# Altium footprint library PcbLib1.PcbLib: 64 footprints (part 2 of 4)
Each footprint in its own frame and in the unit in brackets; x right, y up, seen from the top. Pads: shape width x height; smd on the part's side, far side on the other; paste and mask are expansions set on the pad; w line width, h text height; cw(c..) or ccw(c..) is an arc to the next point about the centre after c.
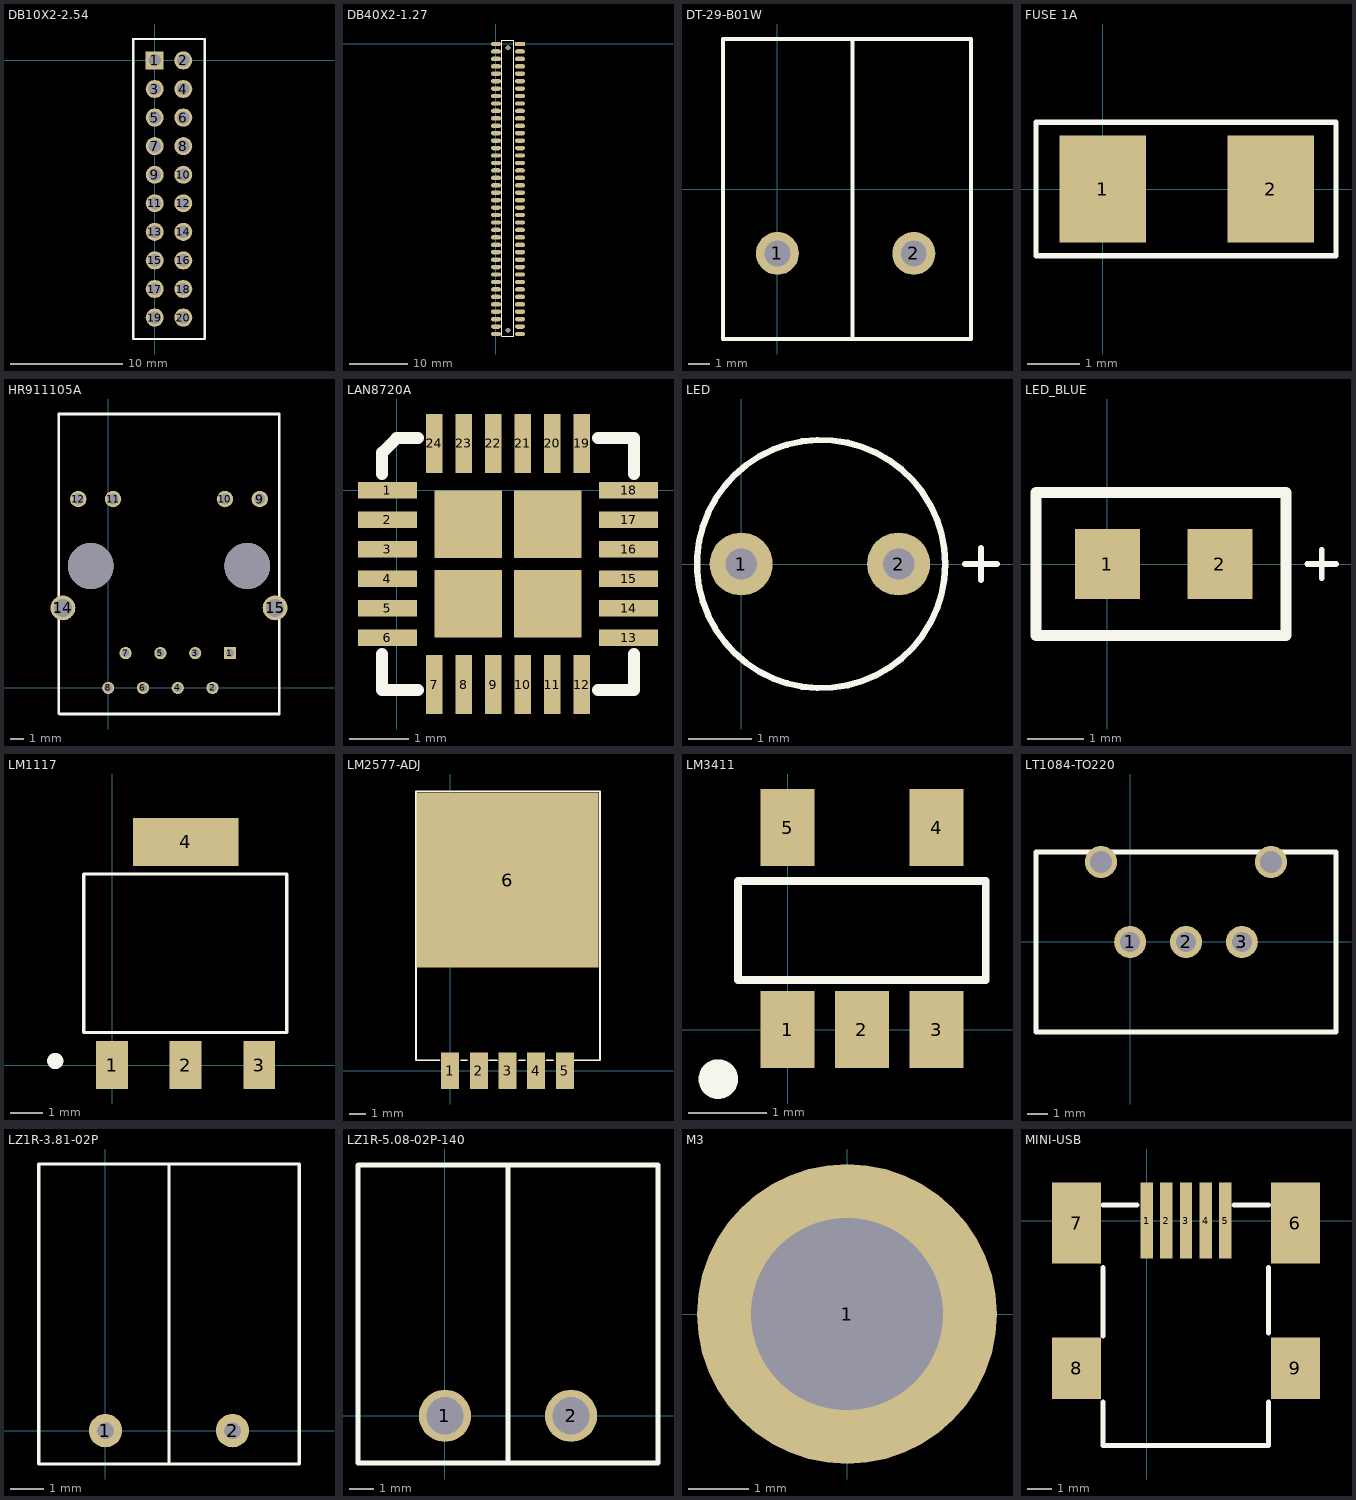
[diagram p1: the footprints below, top view; thin cyan lines are the x and y axes]

## DB10X2-2.54 [mm]
pads (20):
  rect 1.6x1.6 hole 1.1: 1(0,0)
  round 1.6 hole 1.1: 2(2.54,0) 3(0,-2.54) 4(2.54,-2.54) 5(0,-5.08) 6(2.54,-5.08) 7(0,-7.62) 8(2.54,-7.62) 9(0,-10.16) 10(2.54,-10.16) 11(0,-12.7) 12(2.54,-12.7) 13(0,-15.24) 14(2.54,-15.24) 15(0,-17.78) 16(2.54,-17.78) 17(0,-20.32) 18(2.54,-20.32) 19(0,-22.86) 20(2.54,-22.86)
Top Overlay:
  lines w0.2: -1.905,-24.765 4.445,-24.765 4.445,1.905 -1.905,1.905 -1.905,-24.765

## DB40X2-1.27 [mm]
pads (80):
  rect 1.7x0.74 smd: 1(4.1,0)
  oval 1.7x0.74 smd: 2(0,0) 3(4.1,-1.27) 4(0,-1.27) 5(4.1,-2.54) 6(0,-2.54) 7(4.1,-3.81) 8(0,-3.81) 9(4.1,-5.08) 10(0,-5.08) 11(4.1,-6.35) 12(0,-6.35) 13(4.1,-7.62) 14(0,-7.62) 15(4.1,-8.89) 16(0,-8.89) 17(4.1,-10.16) 18(0,-10.16) 19(4.1,-11.43) 20(0,-11.43) 21(4.1,-12.7) 22(0,-12.7) 23(4.1,-13.97) 24(0,-13.97) 25(4.1,-15.24) 26(0,-15.24) 27(4.1,-16.51) 28(0,-16.51) 29(4.1,-17.78) 30(0,-17.78) 31(4.1,-19.05) 32(0,-19.05) 33(4.1,-20.32) 34(0,-20.32) 35(4.1,-21.59) 36(0,-21.59) 37(4.1,-22.86) 38(0,-22.86) 39(4.1,-24.13) 40(0,-24.13) 41(4.1,-25.4) 42(0,-25.4) 43(4.1,-26.67) 44(0,-26.67) 45(4.1,-27.94) 46(0,-27.94) 47(4.1,-29.21) 48(0,-29.21) 49(4.1,-30.48) 50(0,-30.48) 51(4.1,-31.75) 52(0,-31.75) 53(4.1,-33.02) 54(0,-33.02) 55(4.1,-34.29) 56(0,-34.29) 57(4.1,-35.56) 58(0,-35.56) 59(4.1,-36.83) 60(0,-36.83) 61(4.1,-38.1) 62(0,-38.1) 63(4.1,-39.37) 64(0,-39.37) 65(4.1,-40.64) 66(0,-40.64) 67(4.1,-41.91) 68(0,-41.91) 69(4.1,-43.18) 70(0,-43.18) 71(4.1,-44.45) 72(0,-44.45) 73(4.1,-45.72) 74(0,-45.72) 75(4.1,-46.99) 76(0,-46.99) 77(4.1,-48.26) 78(0,-48.26) 79(4.1,-49.53) 80(0,-49.53)
via 2.05,-0.635 diameter 0.8 hole 0.8
via 2.05,-48.895 diameter 0.8 hole 0.8
Top Overlay:
  lines w0.1: 1.016,-49.911 1.016,0.635 3.048,0.635 3.048,-49.911 1.016,-49.911

## DT-29-B01W [mm]
pads (2):
  round 2 hole 1.2: 1(0,-3) 2(6.35,-3)
Top Overlay:
  lines w0.2: 3.492,-6.985 3.492,6.985 ; -2.54,-6.985 9.017,-6.985 9.017,6.985 -2.54,6.985 -2.54,0 -2.54,-6.985

## FUSE 1A [mm]
pads (2):
  rect 1.65x2.03 smd: 1(0,0) 2(3.2,0)
Top Overlay:
  lines w0.1: -1.27,-1.27 -1.27,1.27 4.445,1.27 4.445,-1.27 -1.27,-1.27

## HR911105A [mm]
pads (14):
  rect 0.89x0.89 hole 0.6: 1(8.89,2.54)
  round 0.89 hole 0.6: 2(7.62,0) 3(6.35,2.54) 4(5.08,0) 5(3.81,2.54) 6(2.54,0) 7(1.27,2.54) 8(0,0)
  round 1.2 hole 0.8: 9(11.065,13.79) 10(8.525,13.79) 11(0.355,13.79) 12(-2.185,13.79)
  round 1.8 hole 1.3: 14(-3.305,5.84) 15(12.185,5.84)
via 10.155,8.89 diameter 3.35 hole 3.35
via -1.275,8.89 diameter 3.35 hole 3.35
Top Overlay:
  lines w0.2: -3.61,-1.851 -3.556,-1.905 12.49,-1.905 12.49,15.24 12.49,20 -3.61,20 -3.61,15.24 -3.61,6.804 -3.61,-1.851

## LAN8720A [mm]
pads (28):
  rect 1x0.28 smd: 1(-0.155,0) 2(-0.155,-0.5) 3(-0.155,-1) 4(-0.155,-1.5) 5(-0.155,-2) 6(-0.155,-2.5) 13(3.945,-2.5) 14(3.945,-2) 15(3.945,-1.5) 16(3.945,-1) 17(3.945,-0.5) 18(3.945,0)
  rect 0.28x1 smd: 7(0.645,-3.3) 8(1.145,-3.3) 9(1.645,-3.3) 10(2.145,-3.3) 11(2.645,-3.3) 12(3.145,-3.3) 19(3.145,0.8) 20(2.645,0.8) 21(2.145,0.8) 22(1.645,0.8) 23(1.145,0.8) 24(0.645,0.8)
  rect 1.15x1.15 smd: ""(1.22,-1.925) ""(1.22,-0.575) ""(2.57,-1.925) ""(2.57,-0.575)
Top Overlay:
  lines w0.2: -0.245,-2.78 -0.245,-3.39 0.365,-3.39 ; -0.245,0.28 -0.245,0.645 0,0.89 0.365,0.89 ; 3.425,-3.39 4.035,-3.39 4.035,-2.78 ; 3.425,0.89 4.035,0.89 4.035,0.28

## LED [mm]
pads (2):
  round 1 hole 0.5: 1(0,0) 2(2.5,0)
Top Overlay:
  circle w0.1: c1.27,0 r1.972
  lines w0.1: 3.556,0 4.064,0 ; 3.81,-0.254 3.81,0.254

## LED_BLUE [mm]
pads (2):
  rect 1.15x1.25 smd: 1(0,0) 2(2,0)
Top Overlay:
  lines w0.1: 3.556,0 4.064,0 ; 3.81,-0.254 3.81,0.254
  lines w0.2: -1.27,-1.27 3.175,-1.27 3.175,1.27 -1.27,1.27 -1.27,-1.27

## LM1117 [mm]
pads (4):
  rect 1x1.5 smd: 1(0,0) 2(2.3,0) 3(4.6,0)
  rect 3.3x1.5 smd: 4(2.3,6.98)
Top Overlay:
  circle w0.254: c-1.778,0.127 r0.127
  lines w0.1: -0.889,1.016 -0.889,5.969 5.461,5.969 5.461,1.016 -0.889,1.016

## LM2577-ADJ [mm]
pads (6):
  rect 1.07x2.16 smd: 1(0,0) 2(1.7,0) 3(3.4,0) 4(5.1,0) 5(6.8,0)
  rect 10.8x10.4 smd: 6(3.4,11.32)
Top Overlay:
  lines w0.1: -0.635,0.635 -2.032,0.635 -2.032,13.589 -2.032,16.589 8.89,16.589 8.89,13.589 8.89,0.635 7.366,0.635 ; 0.635,0.635 1.016,0.635 ; 2.286,0.635 2.794,0.635 ; 4.064,0.635 4.445,0.635 ; 5.715,0.635 6.096,0.635

## LM3411 [mm]
pads (5):
  rect 0.69x0.99 smd: 1(0,0) 2(0.953,0) 3(1.91,0) 4(1.91,2.59) 5(0,2.59)
Top Overlay:
  circle w0.254: c-0.889,-0.635 r0.127
  lines w0.1: -0.635,0.635 2.54,0.635 2.54,1.905 -0.635,1.905 -0.635,0.635

## LT1084-TO220 [mm]
pads (5):
  round 1.6 hole 1: 1(0,0) 2(2.794,0) 3(5.588,0)
  round 1.6 hole 1.1: ""(-1.456,4) ""(7.044,4)
Top Overlay:
  lines w0.254: 10.239,-4.5 -4.706,-4.5 -4.706,4.5 10.294,4.5 10.294,-4.5

## LZ1R-3.81-02P [mm]
pads (2):
  round 1 hole 0.5: 1(0,0) 2(3.81,0)
Top Overlay:
  lines w0.1: 1.905,-1 1.905,8 ; -2,-1 5.81,-1 5.81,8 -2,8 -2,-1

## LZ1R-5.08-02P-140 [mm]
pads (2):
  round 2.1 hole 1.5: 1(0,0) 2(5.08,0)
Top Overlay:
  lines w0.2: 2.54,-1.9 2.54,10.1 ; -3.5,-1.9 8.58,-1.9 8.58,10.1 -3.489,10.1 -3.5,10.089 -3.5,0 -3.5,-1.9

## M3 [mm]
pads (1):
  round 5 hole 3.2: 1(0,0)

## MINI-USB [mm]
pads (9):
  rect 0.5x3.1 smd: 1(0,0) 2(0.8,0) 3(1.6,0) 4(2.4,0) 5(3.2,0)
  rect 2x3.3 smd: 6(6.05,-0.1) 7(-2.85,-0.1)
  rect 2x2.5 smd: 8(-2.85,-6) 9(6.05,-6)
Top Overlay:
  lines w0.2: -1.778,-7.366 -1.778,-9.144 4.953,-9.144 4.953,-7.366 ; -1.778,-4.699 -1.778,-1.905 ; -1.778,0.635 -0.381,0.635 ; 3.556,0.635 4.953,0.635 ; 4.953,-4.572 4.953,-1.905